# EAGLE library part BQ21040DBVR (library SamacSys_Parts)
0.8A Single Input Single-Cell Li-Ion and Li-Pol Battery Charger Source: Datasheet <http://www.ti.com/lit/gpn/bq21040>
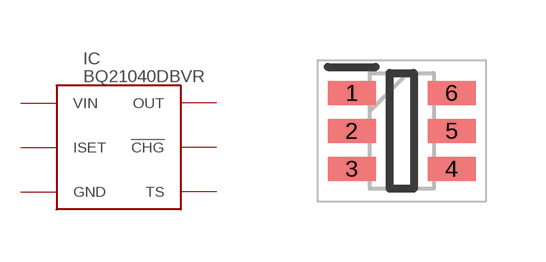
[diagram p1: symbol with the pads of SOT95P280X145-6N; footprint SOT95P280X145-6N]

Designator prefix IC

## BQ21040DBVR (DESCRIPTION: 0.8A Single Input Single-Cell Li-Ion and Li-Pol Battery Charger; HEIGHT: 1.45mm; MANUFACTURER_NAME: Texas Instruments; MANUFACTURER_PART_NUMBER: BQ21040DBVR; MOUSER_PART_NUMBER: 595-BQ21040DBVR; MOUSER_PRICE-STOCK: https://www.mouser.com/Search/Refine.aspx?Keyword=595-BQ21040DBVR)  [SOT95P280X145-6N]
1  TS  in
2  OUT  out
3  !CHG  out
4  ISET  in
5  GND  pwr
6  VIN  in

## Footprint SOT95P280X145-6N (pad centres in mm)
DBV (R-PDSO-G6)
smd 1.2 x 0.6: 1 -1.25,0.95; 2 -1.25,0; 3 -1.25,-0.95; 4 1.25,-0.95; 5 1.25,0; 6 1.25,0.95